# Altium integrated library SPB80P06P.IntLib: 1 symbol
Pins are listed as number, name and electrical type; pins without a type are passive.

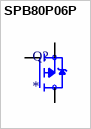
[diagram p0: symbol SPB80P06P]

## SPB80P06P
designator Q?
P-Channel 60V 80A (Tc) 340W (Tc) Surface Mount PG-TO263-3-2; MP: SPB80P06P; MF: Infineon Technologies; Availability: In Stock; SnapEDA_Link: https://www.snapeda.com/parts/SPB80P06P/Infineon%20Technologies/view-part/558900/?ref=snap; Value: *; Price: None; Package: TO-263 Infineon; Check_prices: https://www.snapeda.com/parts/SPB80P06P/Infineon%20Technologies/view-part/558900/?ref=eda; Purchase-URL: https://pricing.snapeda.com/search/part/SPB80P06P/?ref=eda
footprint TO263
pins: 1 G, 2 S, 3 D